# Altium schematic symbol library IC_MEMORY.SchLib: 5 symbols
Pins are listed as number, name and electrical type; pins without a type are passive.

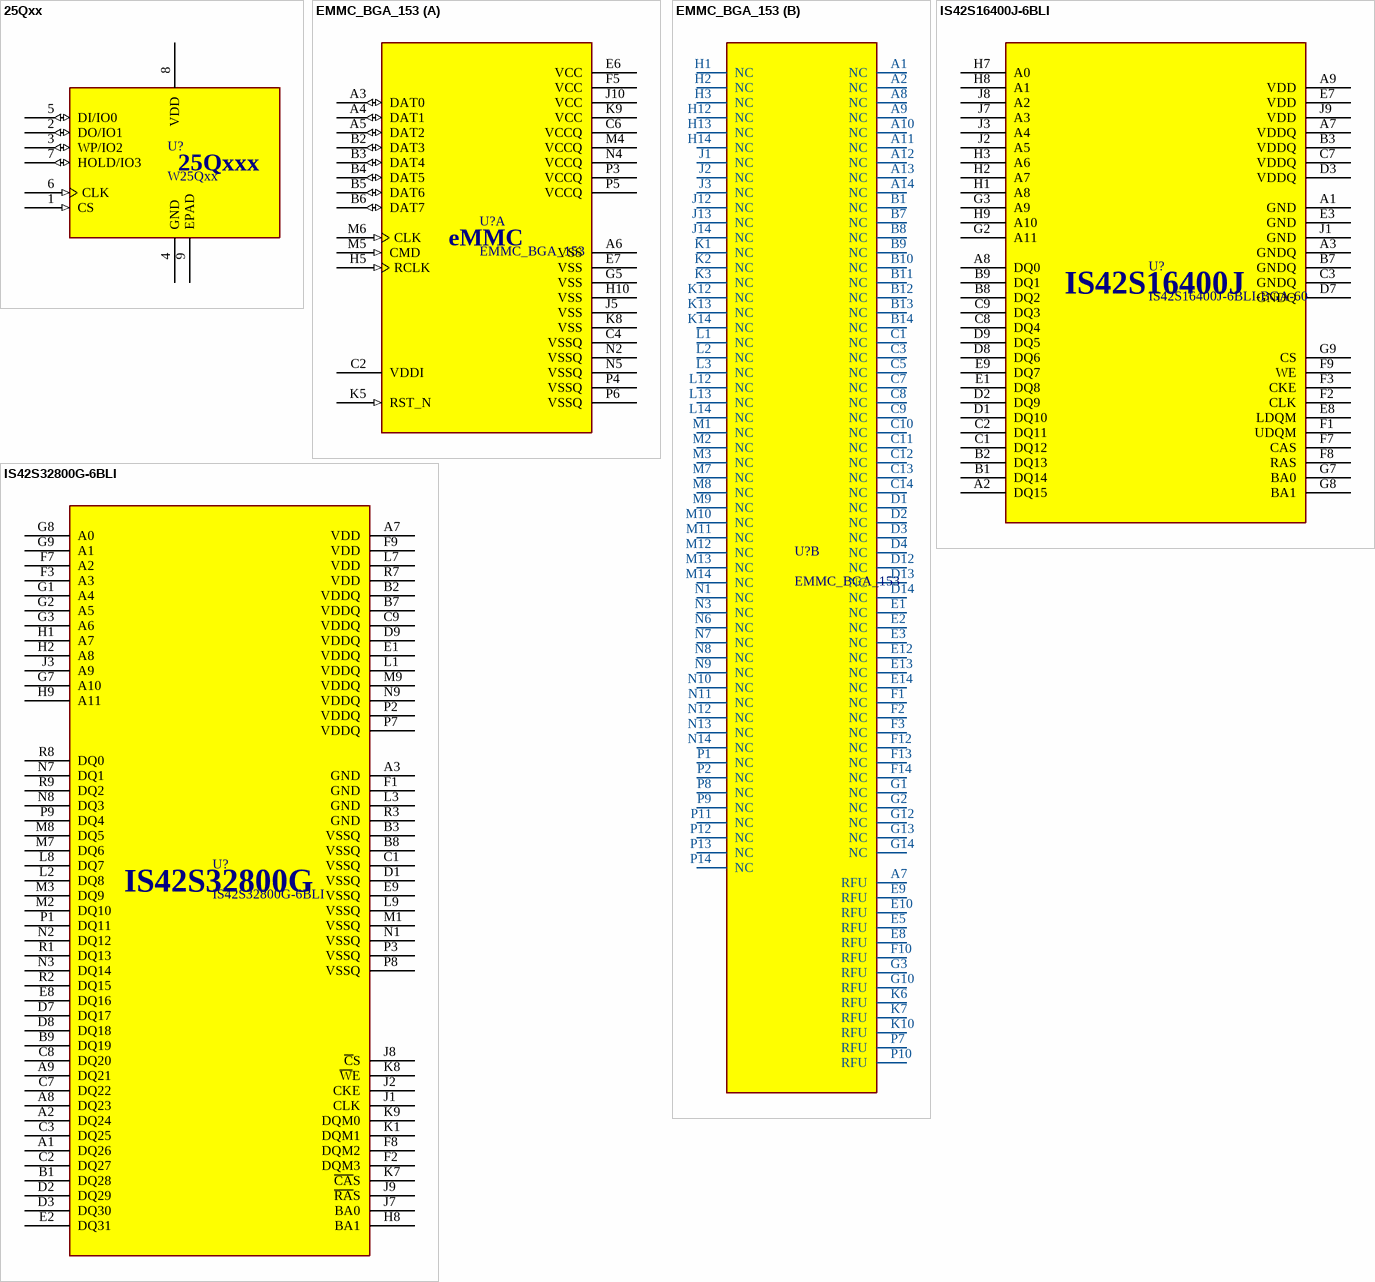
[diagram p0: symbols 25Qxx to IS42S32800G-6BLI]

## 25Qxx
designator U?, comment W25Qxx
SERIAL FLASH MEMORY WITH / DUAL AND QUAD SPI
footprint SOIC8-3.9x4.9-P1.27
footprint SOIC8-5.275x5.275-P1.27
footprint WSON8_6x5_P1.27
pins: 1 CS (in), 2 DO/IO1 (io), 3 WP/IO2 (io), 4 GND (power), 5 DI/IO0 (io), 6 CLK (in), 7 HOLD/IO3 (io), 8 VDD (power), 9 EPAD (power)
text: 25Qxxx

## EMMC_BGA_153
designator U?
eMMC Memory.; MPN: *; LCSC: *
footprint BGA153_eMMC
part A pins: A3 DAT0 (io), A4 DAT1 (io), A5 DAT2 (io), A6 VSS (power), B2 DAT3 (io), B3 DAT4 (io), B4 DAT5 (io), B5 DAT6 (io), B6 DAT7 (io), C2 VDDI, C4 VSSQ (power), C6 VCCQ (power), E6 VCC (power), E7 VSS (power), F5 VCC (power), G5 VSS (power), H5 RCLK (in), H10 VSS (power), J5 VSS (power), J10 VCC (power), K5 RST_N (in), K8 VSS (power), K9 VCC (power), M4 VCCQ (power), M5 CMD (in), M6 CLK (in), N2 VSSQ (power), N4 VCCQ (power), N5 VSSQ (power), P3 VCCQ (power), P4 VSSQ (power), P5 VCCQ (power), P6 VSSQ (power)
part B pins: A1 NC, A2 NC, A7 RFU, A8 NC, A9 NC, A10 NC, A11 NC, A12 NC, A13 NC, A14 NC, B1 NC, B7 NC, B8 NC, B9 NC, B10 NC, B11 NC, B12 NC, B13 NC, B14 NC, C1 NC, C3 NC, C5 NC, C7 NC, C8 NC, C9 NC, C10 NC, C11 NC, C12 NC, C13 NC, C14 NC, D1 NC, D2 NC, D3 NC, D4 NC, D12 NC, D13 NC, D14 NC, E1 NC, E2 NC, E3 NC, E5 RFU, E8 RFU, E9 RFU, E10 RFU, E12 NC, E13 NC, E14 NC, F1 NC, F2 NC, F3 NC, F10 RFU, F12 NC, F13 NC, F14 NC, G1 NC, G2 NC, G3 RFU, G10 RFU, G12 NC, G13 NC, G14 NC, H1 NC, H2 NC, H3 NC, H12 NC, H13 NC, H14 NC, J1 NC, J2 NC, J3 NC, J12 NC, J13 NC, J14 NC, K1 NC, K2 NC, K3 NC, K6 RFU, K7 RFU, K10 RFU, K12 NC, K13 NC, K14 NC, L1 NC, L2 NC, L3 NC, L12 NC, L13 NC, L14 NC, M1 NC, M2 NC, M3 NC, M7 NC, M8 NC, M9 NC, M10 NC, M11 NC, M12 NC, M13 NC, M14 NC, N1 NC, N3 NC, N6 NC, N7 NC, N8 NC, N9 NC, N10 NC, N11 NC, N12 NC, N13 NC, N14 NC, P1 NC, P2 NC, P7 RFU, P8 NC, P9 NC, P10 RFU, P11 NC, P12 NC, P13 NC, P14 NC
part A text: eMMC

## IS42S16400J-6BLI
designator U?, comment IS42S16400J-6BLI-BGA-60
1 Meg Bits x 16 Bits x 4 Banks (64-MBIT) SYNCHRONOUS DYNAMIC RAM.
footprint TFBGA-54-8x8-P0.8
pins: A1 GND (power), A2 DQ15 (power), A3 GNDQ (power), A7 VDDQ (power), A8 DQ0 (power), A9 VDD (power), B1 DQ14 (power), B2 DQ13 (power), B3 VDDQ (power), B7 GNDQ (power), B8 DQ2 (power), B9 DQ1 (power), C1 DQ12 (power), C2 DQ11 (power), C3 GNDQ (power), C7 VDDQ (power), C8 DQ4 (power), C9 DQ3 (power), D1 DQ10 (power), D2 DQ9 (power), D3 VDDQ (power), D7 GNDQ (power), D8 DQ6 (power), D9 DQ5 (power), E1 DQ8 (power), E3 GND (power), E7 VDD (power), E8 LDQM (power), E9 DQ7 (power), F1 UDQM (power), F2 CLK (power), F3 CKE (power), F7 CAS (power), F8 RAS (power), F9 WE (power), G2 A11 (power), G3 A9 (power), G7 BA0 (power), G8 BA1 (power), G9 CS (power), H1 A8 (power), H2 A7 (power), H3 A6 (power), H7 A0 (power), H8 A1 (power), H9 A10 (power), J1 GND (power), J2 A5 (power), J3 A4 (power), J7 A3 (power), J8 A2 (power), J9 VDD (power)
text: IS42S16400J

## IS42S32800G-6BLI
designator U?
8Mx32-bits 256Mb SYNCHRONOUS DRAM
footprint TFBGA-90-8x13-P0.8
pins: A1 DQ26 (power), A2 DQ24 (power), A3 GND (power), A7 VDD (power), A8 DQ23 (power), A9 DQ21 (power), B1 DQ28 (power), B2 VDDQ (power), B3 VSSQ (power), B7 VDDQ (power), B8 VSSQ (power), B9 DQ19 (power), C1 VSSQ (power), C2 DQ27 (power), C3 DQ25 (power), C7 DQ22 (power), C8 DQ20 (power), C9 VDDQ (power), D1 VSSQ (power), D2 DQ29 (power), D3 DQ30 (power), D7 DQ17 (power), D8 DQ18 (power), D9 VDDQ (power), E1 VDDQ (power), E2 DQ31 (power), E8 DQ16 (power), E9 VSSQ (power), F1 GND (power), F2 DQM3 (power), F3 A3 (power), F7 A2 (power), F8 DQM2 (power), F9 VDD (power), G1 A4 (power), G2 A5 (power), G3 A6 (power), G7 A10 (power), G8 A0 (power), G9 A1 (power), H1 A7 (power), H2 A8 (power), H8 BA1 (power), H9 A11 (power), J1 CLK (power), J2 CKE (power), J3 A9 (power), J7 BA0 (power), J8 ~{C}S (power), J9 ~{RA}S (power), K1 DQM1 (power), K7 ~{CA}S (power), K8 ~{W}E (power), K9 DQM0 (power), L1 VDDQ (power), L2 DQ8 (power), L3 GND (power), L7 VDD (power), L8 DQ7 (power), L9 VSSQ (power), M1 VSSQ (power), M2 DQ10 (power), M3 DQ9 (power), M7 DQ6 (power), M8 DQ5 (power), M9 VDDQ (power), N1 VSSQ (power), N2 DQ12 (power), N3 DQ14 (power), N7 DQ1 (power), N8 DQ3 (power), N9 VDDQ (power), P1 DQ11 (power), P2 VDDQ (power), P3 VSSQ (power), P7 VDDQ (power), P8 VSSQ (power), P9 DQ4 (power), R1 DQ13 (power), R2 DQ15 (power), R3 GND (power), R7 VDD (power), R8 DQ0 (power), R9 DQ2 (power)
text: IS42S32800G

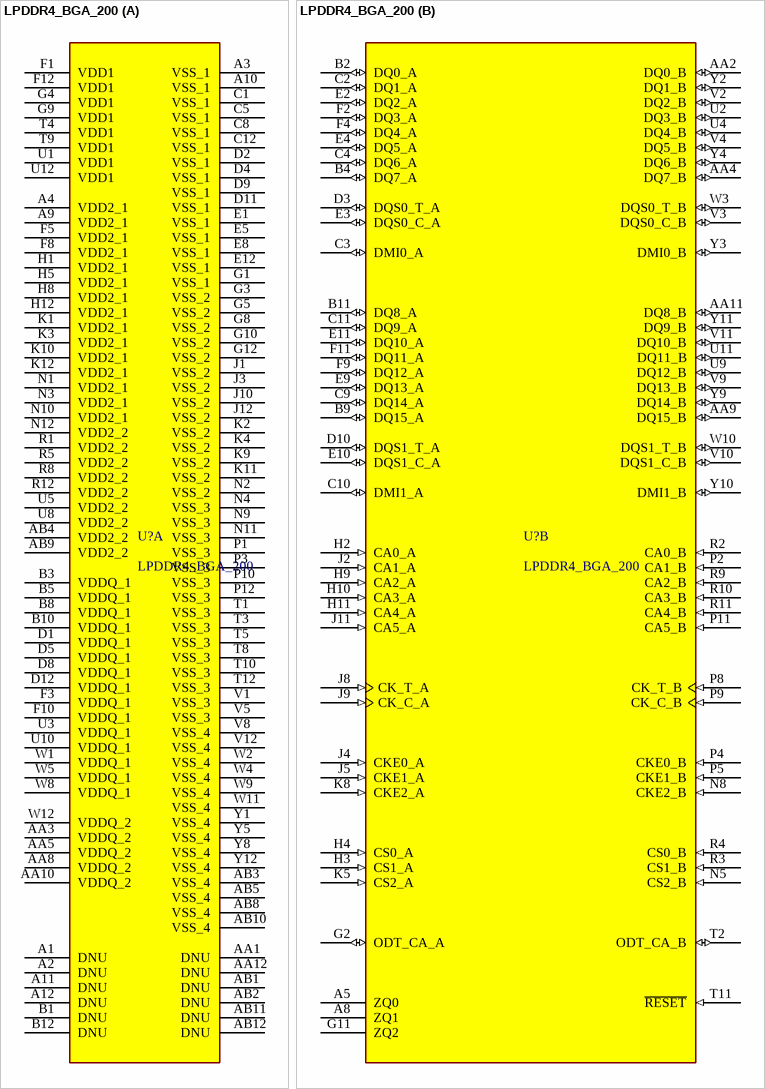
[diagram p1: symbol LPDDR4_BGA_200]

## LPDDR4_BGA_200
designator U?
LPDDR4 Memory.; MPN: *; LCSC: *
footprint BGA200_LPDDR4
part A pins: A1 DNU, A2 DNU, A3 VSS_1 (power), A4 VDD2_1 (power), A9 VDD2_1 (power), A10 VSS_1 (power), A11 DNU, A12 DNU, AA1 DNU, AA3 VDDQ_2 (power), AA5 VDDQ_2 (power), AA8 VDDQ_2 (power), AA10 VDDQ_2 (power), AA12 DNU, AB1 DNU, AB2 DNU, AB3 VSS_4 (power), AB4 VDD2_2 (power), AB5 VSS_4 (power), AB8 VSS_4 (power), AB9 VDD2_2 (power), AB10 VSS_4 (power), AB11 DNU, AB12 DNU, B1 DNU, B3 VDDQ_1 (power), B5 VDDQ_1 (power), B8 VDDQ_1 (power), B10 VDDQ_1 (power), B12 DNU, C1 VSS_1 (power), C5 VSS_1 (power), C8 VSS_1 (power), C12 VSS_1 (power), D1 VDDQ_1 (power), D2 VSS_1 (power), D4 VSS_1 (power), D5 VDDQ_1 (power), D8 VDDQ_1 (power), D9 VSS_1 (power), D11 VSS_1 (power), D12 VDDQ_1 (power), E1 VSS_1 (power), E5 VSS_1 (power), E8 VSS_1 (power), E12 VSS_1 (power), F1 VDD1 (power), F3 VDDQ_1 (power), F5 VDD2_1 (power), F8 VDD2_1 (power), F10 VDDQ_1 (power), F12 VDD1 (power), G1 VSS_1 (power), G3 VSS_2 (power), G4 VDD1 (power), G5 VSS_2 (power), G8 VSS_2 (power), G9 VDD1 (power), G10 VSS_2 (power), G12 VSS_2 (power), H1 VDD2_1 (power), H5 VDD2_1 (power), H8 VDD2_1 (power), H12 VDD2_1 (power), J1 VSS_2 (power), J3 VSS_2 (power), J10 VSS_2 (power), J12 VSS_2 (power), K1 VDD2_1 (power), K2 VSS_2 (power), K3 VDD2_1 (power), K4 VSS_2 (power), K9 VSS_2 (power), K10 VDD2_1 (power), K11 VSS_2 (power), K12 VDD2_1 (power), N1 VDD2_1 (power), N2 VSS_2 (power), N3 VDD2_1 (power), N4 VSS_3 (power), N9 VSS_3 (power), N10 VDD2_1 (power), N11 VSS_3 (power), N12 VDD2_2 (power), P1 VSS_3 (power), P3 VSS_3 (power), P10 VSS_3 (power), P12 VSS_3 (power), R1 VDD2_2 (power), R5 VDD2_2 (power), R8 VDD2_2 (power), R12 VDD2_2 (power), T1 VSS_3 (power), T3 VSS_3 (power), T4 VDD1 (power), T5 VSS_3 (power), T8 VSS_3 (power), T9 VDD1 (power), T10 VSS_3 (power), T12 VSS_3 (power), U1 VDD1 (power), U3 VDDQ_1 (power), U5 VDD2_2 (power), U8 VDD2_2 (power), U10 VDDQ_1 (power), U12 VDD1 (power), V1 VSS_3 (power), V5 VSS_3 (power), V8 VSS_4 (power), V12 VSS_4 (power), W1 VDDQ_1 (power), W2 VSS_4 (power), W4 VSS_4 (power), W5 VDDQ_1 (power), W8 VDDQ_1 (power), W9 VSS_4 (power), W11 VSS_4 (power), W12 VDDQ_2 (power), Y1 VSS_4 (power), Y5 VSS_4 (power), Y8 VSS_4 (power), Y12 VSS_4 (power)
part B pins: A5 ZQ0, A8 ZQ1, AA2 DQ0_B (io), AA4 DQ7_B (io), AA9 DQ15_B (io), AA11 DQ8_B (io), B2 DQ0_A (io), B4 DQ7_A (io), B9 DQ15_A (io), B11 DQ8_A (io), C2 DQ1_A (io), C3 DMI0_A (io), C4 DQ6_A (io), C9 DQ14_A (io), C10 DMI1_A (io), C11 DQ9_A (io), D3 DQS0_T_A (io), D10 DQS1_T_A (io), E2 DQ2_A (io), E3 DQS0_C_A (io), E4 DQ5_A (io), E9 DQ13_A (io), E10 DQS1_C_A (io), E11 DQ10_A (io), F2 DQ3_A (io), F4 DQ4_A (io), F9 DQ12_A (io), F11 DQ11_A (io), G2 ODT_CA_A (io), G11 ZQ2, H2 CA0_A (in), H3 CS1_A (in), H4 CS0_A (in), H9 CA2_A (in), H10 CA3_A (in), H11 CA4_A (in), J2 CA1_A (in), J4 CKE0_A (in), J5 CKE1_A (in), J8 CK_T_A (in), J9 CK_C_A (in), J11 CA5_A (in), K5 CS2_A (in), K8 CKE2_A (in), N5 CS2_B (in), N8 CKE2_B (in), P2 CA1_B (in), P4 CKE0_B (in), P5 CKE1_B (in), P8 CK_T_B (in), P9 CK_C_B (in), P11 CA5_B (in), R2 CA0_B (in), R3 CS1_B (in), R4 CS0_B (in), R9 CA2_B (in), R10 CA3_B (in), R11 CA4_B (in), T2 ODT_CA_B (io), T11 ~{RESET} (in), U2 DQ3_B (io), U4 DQ4_B (io), U9 DQ12_B (io), U11 DQ11_B (io), V2 DQ2_B (io), V3 DQS0_C_B (io), V4 DQ5_B (io), V9 DQ13_B (io), V10 DQS1_C_B (io), V11 DQ10_B (io), W3 DQS0_T_B (io), W10 DQS1_T_B (io), Y2 DQ1_B (io), Y3 DMI0_B (io), Y4 DQ6_B (io), Y9 DQ14_B (io), Y10 DMI1_B (io), Y11 DQ9_B (io)